# Altium integrated library TI Data Converters Digital to Analog Converter.IntLib: 1533 symbols (part 14 of 99)
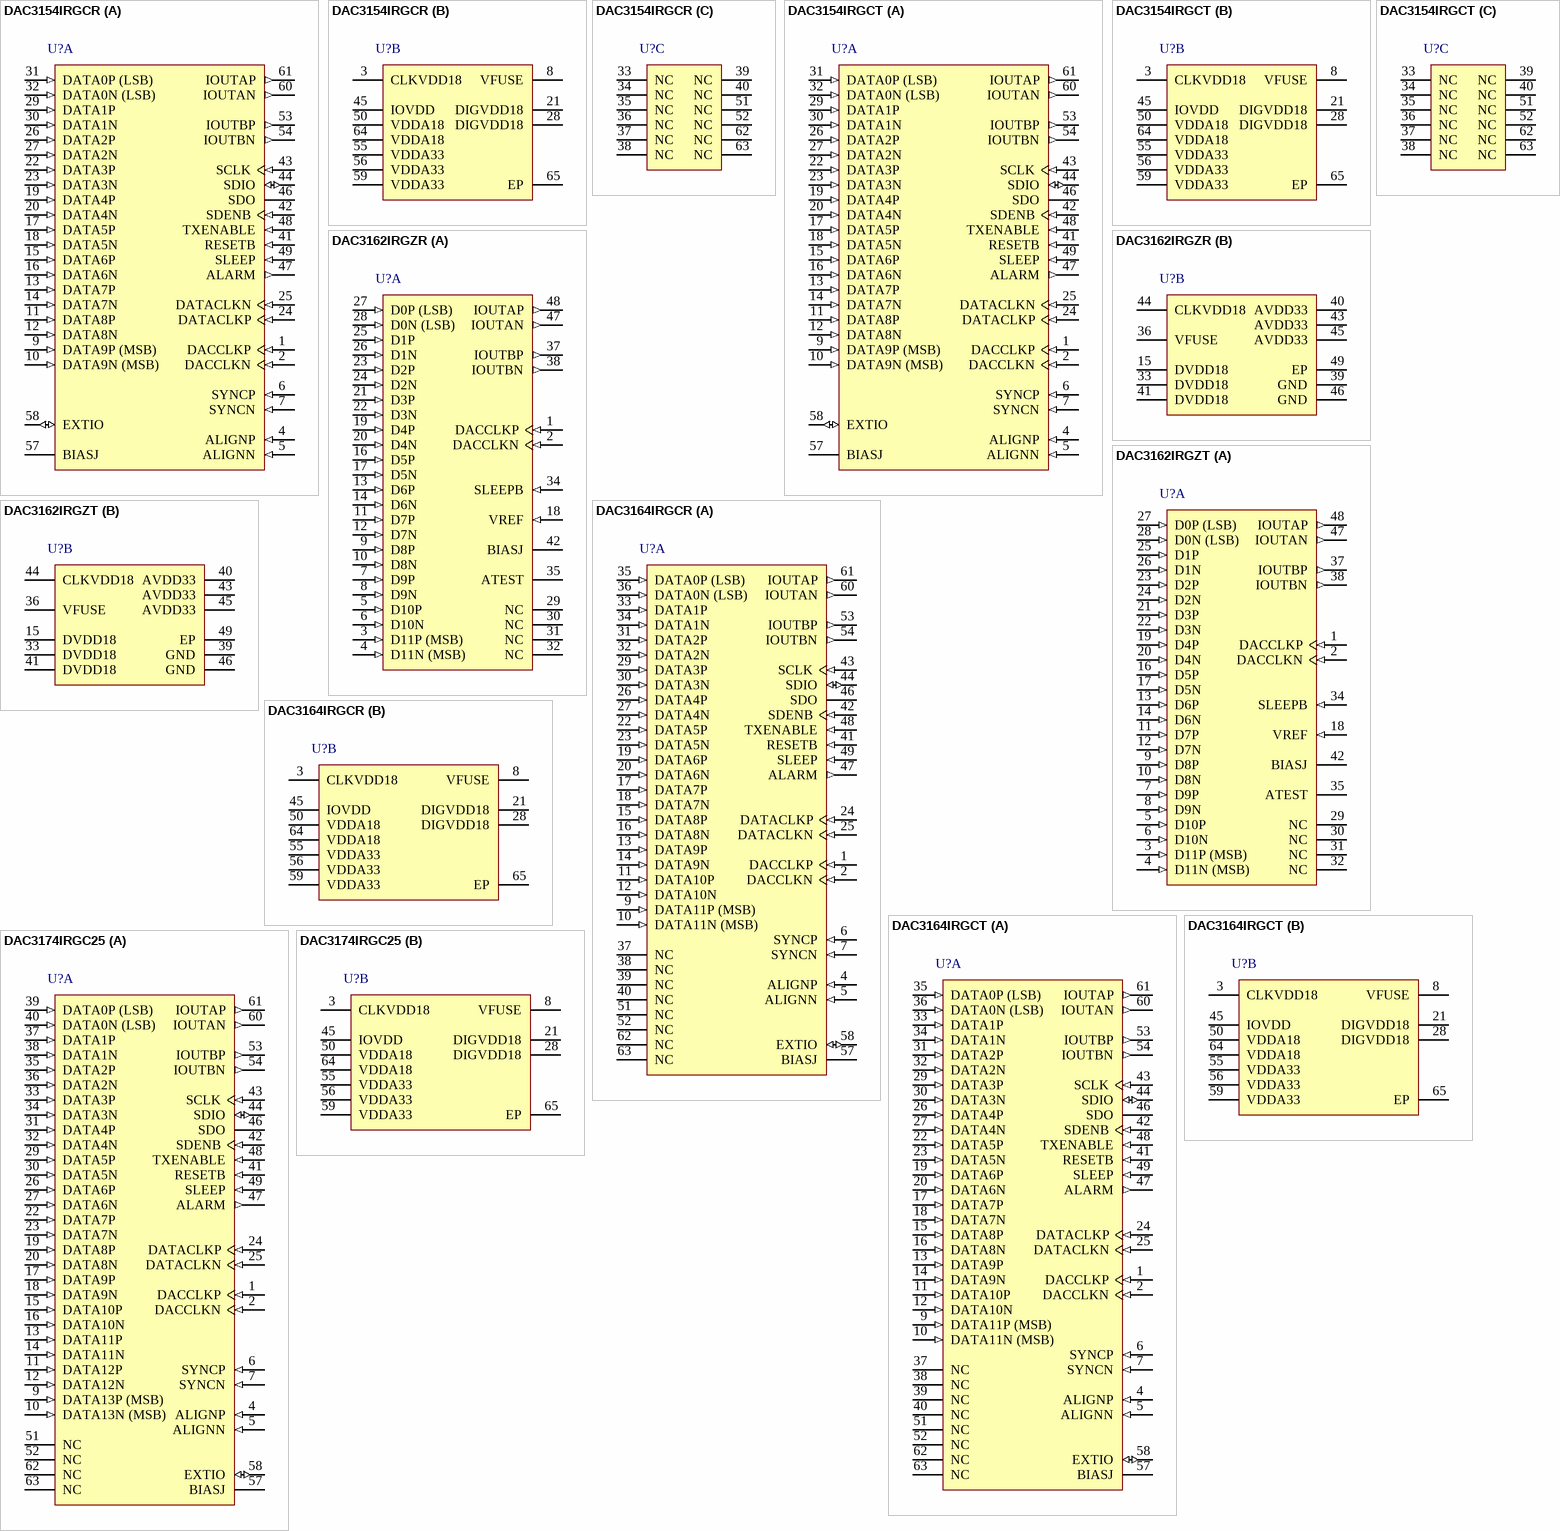
[diagram p86: symbols DAC3154IRGCR to DAC3174IRGC25]

## DAC3164IRGCR
designator U?
Dual 12-Bit 500 MSPS Digital to Analog Converter, -40 to 85 degC, 64-pin QFN (RGC64), Green (RoHS & no Sb/Br); Manufacturer: Texas Instruments; PartNumber: DAC3164IRGCR; DAC Channels: 2; Power Consumption(Typ)(mW): 464; Resolution(Bits): 12; Settling Time(us): 0.011; SFDR(dB): 82; SubFamily: High Speed DAC (>10MSPS); DatasheetVersion: SLAS960; PackageVersion: 4204106/F, 11/2011; PackageReference: RGC64-7400X7400TP; PackageDescription: 64-Pin Plastic Quad Flatpack No-Lead, Body 9 x 9 mm, Pitch 0.5 mm; Eco-Plan: Green (RoHS & no Sb/Br); Mounting Technology: Surface Mount; ComponentLink1Description: Manufacturer URL; ComponentLink1URL: http://www.ti.com/; ComponentLink2Description: Datasheet; ComponentLink2URL: http://www.ti.com/lit/ds/symlink/dac3164.pdf; ComponentLink3Description: Package Specification; ComponentLink3URL: http://www.ti.com/litv/pdf/mpqf125e
footprint TI-RGC64-7400X7400TP_V (QFN, 64-Leads, Body 9x9mm, Pitch 0.5mm, Thermal Pad 7.4x7.4mm, TI Recommended)
part A pins: 1 DACCLKP (in) "LVPECL clock input for DAC core with a self-bias of approximately CLKVDD18/2.", 2 DACCLKN (in) "LVPECL clock input for DAC core with a self-bias of approximately CLKVDD18/2.", 4 ALIGNP (in) "LVPECL FIFO output syncrhonization. This positive/negative pair is captured with the rising edge of DACCLKP/N. It is used to reset the clock dividers and for multiple DAC synchronization. If unused it can be left unconnected.", 5 ALIGNN (in) "LVPECL FIFO output syncrhonization. This positive/negative pair is captured with the rising edge of DACCLKP/N. It is used to reset the clock dividers and for multiple DAC synchronization. If unused it can be left unconnected.", 6 SYNCP (in) "Reset the FIFO or to be used as a syncing source. These two functions are captured with the rising edge of DATACLKP/N. The signal captured by the falling edge of DATACLKP/N.", 7 SYNCN (in) "Reset the FIFO or to be used as a syncing source. These two functions are captured with the rising edge of DATACLKP/N. The signal captured by the falling edge of DATACLKP/N.", 9 DATA11P (MSB) (in) "LVDS input data bits for both channels. Each positive/negative LVDS pair has an internal 100 Ohm termination resistor. Data format relative to DATACLKP/N clock is Double Data Rate (DDR) with two data transfers per DATACKP/N (See Datasheet)", 10 DATA11N (MSB) (in) "LVDS input data bits for both channels. Each positive/negative LVDS pair has an internal 100 Ohm termination resistor. Data format relative to DATACLKP/N clock is Double Data Rate (DDR) with two data transfers per DATACKP/N (See Datasheet)", 11 DATA10P (in) "LVDS input data bits for both channels. Each positive/negative LVDS pair has an internal 100 Ohm termination resistor. Data format relative to DATACLKP/N clock is Double Data Rate (DDR) with two data transfers per DATACKP/N (See Datasheet)", 12 DATA10N (in) "LVDS input data bits for both channels. Each positive/negative LVDS pair has an internal 100 Ohm termination resistor. Data format relative to DATACLKP/N clock is Double Data Rate (DDR) with two data transfers per DATACKP/N (See Datasheet)", 13 DATA9P (in) "LVDS input data bits for both channels. Each positive/negative LVDS pair has an internal 100 Ohm termination resistor. Data format relative to DATACLKP/N clock is Double Data Rate (DDR) with two data transfers per DATACKP/N (See Datasheet)", 14 DATA9N (in) "LVDS input data bits for both channels. Each positive/negative LVDS pair has an internal 100 Ohm termination resistor. Data format relative to DATACLKP/N clock is Double Data Rate (DDR) with two data transfers per DATACKP/N (See Datasheet)", 15 DATA8P (in) "LVDS input data bits for both channels. Each positive/negative LVDS pair has an internal 100 Ohm termination resistor. Data format relative to DATACLKP/N clock is Double Data Rate (DDR) with two data transfers per DATACKP/N (See Datasheet)", 16 DATA8N (in) "LVDS input data bits for both channels. Each positive/negative LVDS pair has an internal 100 Ohm termination resistor. Data format relative to DATACLKP/N clock is Double Data Rate (DDR) with two data transfers per DATACKP/N (See Datasheet)", 17 DATA7P (in) "LVDS input data bits for both channels. Each positive/negative LVDS pair has an internal 100 Ohm termination resistor. Data format relative to DATACLKP/N clock is Double Data Rate (DDR) with two data transfers per DATACKP/N (See Datasheet)", 18 DATA7N (in) "LVDS input data bits for both channels. Each positive/negative LVDS pair has an internal 100 Ohm termination resistor. Data format relative to DATACLKP/N clock is Double Data Rate (DDR) with two data transfers per DATACKP/N (See Datasheet)", 19 DATA6P (in) "LVDS input data bits for both channels. Each positive/negative LVDS pair has an internal 100 Ohm termination resistor. Data format relative to DATACLKP/N clock is Double Data Rate (DDR) with two data transfers per DATACKP/N (See Datasheet)", 20 DATA6N (in) "LVDS input data bits for both channels. Each positive/negative LVDS pair has an internal 100 Ohm termination resistor. Data format relative to DATACLKP/N clock is Double Data Rate (DDR) with two data transfers per DATACKP/N (See Datasheet)", 22 DATA5P (in) "LVDS input data bits for both channels. Each positive/negative LVDS pair has an internal 100 Ohm termination resistor. Data format relative to DATACLKP/N clock is Double Data Rate (DDR) with two data transfers per DATACKP/N (See Datasheet)", 23 DATA5N (in) "LVDS input data bits for both channels. Each positive/negative LVDS pair has an internal 100 Ohm termination resistor. Data format relative to DATACLKP/N clock is Double Data Rate (DDR) with two data transfers per DATACKP/N (See Datasheet)", 24 DATACLKP (in) "DDR differential input data clock. Edge to center nominal timing. Ch A rising edge, Ch B falling edge in multiplexed output mode.", 25 DATACLKN (in) "DDR differential input data clock. Edge to center nominal timing. Ch A rising edge, Ch B falling edge in multiplexed output mode.", 26 DATA4P (in) "LVDS input data bits for both channels. Each positive/negative LVDS pair has an internal 100 Ohm termination resistor. Data format relative to DATACLKP/N clock is Double Data Rate (DDR) with two data transfers per DATACKP/N (See Datasheet)", 27 DATA4N (in) "LVDS input data bits for both channels. Each positive/negative LVDS pair has an internal 100 Ohm termination resistor. Data format relative to DATACLKP/N clock is Double Data Rate (DDR) with two data transfers per DATACKP/N (See Datasheet)", 29 DATA3P (in) "LVDS input data bits for both channels. Each positive/negative LVDS pair has an internal 100 Ohm termination resistor. Data format relative to DATACLKP/N clock is Double Data Rate (DDR) with two data transfers per DATACKP/N (See Datasheet)", 30 DATA3N (in) "LVDS input data bits for both channels. Each positive/negative LVDS pair has an internal 100 Ohm termination resistor. Data format relative to DATACLKP/N clock is Double Data Rate (DDR) with two data transfers per DATACKP/N (See Datasheet)", 31 DATA2P (in) "LVDS input data bits for both channels. Each positive/negative LVDS pair has an internal 100 Ohm termination resistor. Data format relative to DATACLKP/N clock is Double Data Rate (DDR) with two data transfers per DATACKP/N (See Datasheet)", 32 DATA2N (in) "LVDS input data bits for both channels. Each positive/negative LVDS pair has an internal 100 Ohm termination resistor. Data format relative to DATACLKP/N clock is Double Data Rate (DDR) with two data transfers per DATACKP/N (See Datasheet)", 33 DATA1P (in) "LVDS input data bits for both channels. Each positive/negative LVDS pair has an internal 100 Ohm termination resistor. Data format relative to DATACLKP/N clock is Double Data Rate (DDR) with two data transfers per DATACKP/N (See Datasheet)", 34 DATA1N (in) "LVDS input data bits for both channels. Each positive/negative LVDS pair has an internal 100 Ohm termination resistor. Data format relative to DATACLKP/N clock is Double Data Rate (DDR) with two data transfers per DATACKP/N (See Datasheet)", 35 DATA0P (LSB) (in) "LVDS input data bits for both channels. Each positive/negative LVDS pair has an internal 100 Ohm termination resistor. Data format relative to DATACLKP/N clock is Double Data Rate (DDR) with two data transfers per DATACKP/N (See Datasheet)", 36 DATA0N (LSB) (in) "LVDS input data bits for both channels. Each positive/negative LVDS pair has an internal 100 Ohm termination resistor. Data format relative to DATACLKP/N clock is Double Data Rate (DDR) with two data transfers per DATACKP/N (See Datasheet)", 37 NC "Not used. These pins can be left open or tied to GROUND in actual application use.", 38 NC "Not used. These pins can be left open or tied to GROUND in actual application use.", 39 NC "Not used. These pins can be left open or tied to GROUND in actual application use.", 40 NC "Not used. These pins can be left open or tied to GROUND in actual application use.", 41 RESETB (in) "Serial interface reset input. Active low. Initialized internal registers during high to low transition. Assynchronous. Internal pull-up.", 42 SDENB (in) "Serial interface clock. Internal pull-up.", 43 SCLK (in) "Serial interface clock. Internal pull-down.", 44 SDIO (io) "Bi-directional serial data in 3 pin mode (default). In 4-pin interface mode (register XYZ), the SDIO pin in an input only. Internal Pull-down.", 46 SDO (hiz) "Uni-directional serial interface data in 4 pin mode (register XYZ). The SDO pin is tri-stated in 3-pin interface mode (default). Internal Pulldown.", 47 ALARM (out) "CMOS output for ALARM condition.", 48 TXENABLE (in) "Transmit enable active high input. TXENABLE must be high for the DATA to the DAC to be enabled. When TXENABLE is low, the digital logic section is forced to all 0, and any input data is ignored. Internal pull-down.", 49 SLEEP (in) "Puts device in sleep, active high. Internal pull-down.", 51 NC "Not used. These pins can be left open or tied to GROUND in actual application use.", 52 NC "Not used. These pins can be left open or tied to GROUND in actual application use.", 53 IOUTBP (out) "B-Channel DAC current output. An offset binary data pattern of 0x0000 at the DAC input results in a full scale current source and the most positive voltage on the IOUTB1 pin. Similarly, a 0xFFFF data input results in a 0 mA (See Datasheet)", 54 IOUTBN (out) "B-Channel DAC current output. An offset binary data pattern of 0x0000 at the DAC input results in a full scale current source and the most positive voltage on the IOUTB1 pin. Similarly, a 0xFFFF data input results in a 0 mA (See Datasheet)", 57 BIASJ "Full-scale output current bias. For 20 mA full-scale output current, connect a 960 Ohm resistor to GND.", 58 EXTIO (io) "Used as external reference input when internal reference is disabled. Requires a 0.1 uF decoupling capacitor to GND when used as reference output.", 60 IOUTAN (out) "A-Channel DAC current output. An offset binary data pattern of 0x0000 at the DAC input results in a full scale current source and the most positive voltage on the IOUTA1 pin. Similarly, a 0xFFFF data input results in a 0 mA (See Datasheet)", 61 IOUTAP (out) "A-Channel DAC current output. An offset binary data pattern of 0x0000 at the DAC input results in a full scale current source and the most positive voltage on the IOUTA1 pin. Similarly, a 0xFFFF data input results in a 0 mA (See Datasheet)", 62 NC "Not used. These pins can be left open or tied to GROUND in actual application use.", 63 NC "Not used. These pins can be left open or tied to GROUND in actual application use."
part B pins: 3 CLKVDD18 (power) "1.8V clock supply", 8 VFUSE (power) "Digital supply voltage. (1.8V) This supply pin is also used for factory fuse programming. Connect to DVDD pins for normal operation.", 21 DIGVDD18 (power) "1.8V digital supply. Also supplies LVDS receivers.", 28 DIGVDD18 (power) "1.8V digital supply. Also supplies LVDS receivers.", 45 IOVDD (power) "Supply voltage for CMOS IO’s. 1.8V - 3.3V.", 50 VDDA18 (power) "Analog 1.8V supply", 55 VDDA33 (power) "Analog 3.3V supply", 56 VDDA33 (power) "Analog 3.3V supply", 59 VDDA33 (power) "Analog 3.3V supply", 64 VDDA18 (power) "Analog 1.8V supply", 65 EP (power)

## DAC3164IRGCT
designator U?
Dual 12-Bit 500 MSPS Digital to Analog Converter, -40 to 85 degC, 64-pin QFN (RGC64), Green (RoHS & no Sb/Br); Manufacturer: Texas Instruments; PartNumber: DAC3164IRGCT; DAC Channels: 2; Power Consumption(Typ)(mW): 464; Resolution(Bits): 12; Settling Time(us): 0.011; SFDR(dB): 82; SubFamily: High Speed DAC (>10MSPS); DatasheetVersion: SLAS960; PackageVersion: 4204106/F, 11/2011; PackageReference: RGC64-7400X7400TP; PackageDescription: 64-Pin Plastic Quad Flatpack No-Lead, Body 9 x 9 mm, Pitch 0.5 mm; Supplier 1: Digi-Key; Supplier Part Number 1: DAC3164IRGCT-ND; Eco-Plan: Green (RoHS & no Sb/Br); Mounting Technology: Surface Mount; ComponentLink1Description: Manufacturer URL; ComponentLink1URL: http://www.ti.com/; ComponentLink2Description: Datasheet; ComponentLink2URL: http://www.ti.com/lit/ds/symlink/dac3164.pdf; ComponentLink3Description: Package Specification; ComponentLink3URL: http://www.ti.com/litv/pdf/mpqf125e
footprint TI-RGC64-7400X7400TP_V (QFN, 64-Leads, Body 9x9mm, Pitch 0.5mm, Thermal Pad 7.4x7.4mm, TI Recommended)
part A pins: 1 DACCLKP (in) "LVPECL clock input for DAC core with a self-bias of approximately CLKVDD18/2.", 2 DACCLKN (in) "LVPECL clock input for DAC core with a self-bias of approximately CLKVDD18/2.", 4 ALIGNP (in) "LVPECL FIFO output syncrhonization. This positive/negative pair is captured with the rising edge of DACCLKP/N. It is used to reset the clock dividers and for multiple DAC synchronization. If unused it can be left unconnected.", 5 ALIGNN (in) "LVPECL FIFO output syncrhonization. This positive/negative pair is captured with the rising edge of DACCLKP/N. It is used to reset the clock dividers and for multiple DAC synchronization. If unused it can be left unconnected.", 6 SYNCP (in) "Reset the FIFO or to be used as a syncing source. These two functions are captured with the rising edge of DATACLKP/N. The signal captured by the falling edge of DATACLKP/N.", 7 SYNCN (in) "Reset the FIFO or to be used as a syncing source. These two functions are captured with the rising edge of DATACLKP/N. The signal captured by the falling edge of DATACLKP/N.", 9 DATA11P (MSB) (in) "LVDS input data bits for both channels. Each positive/negative LVDS pair has an internal 100 Ohm termination resistor. Data format relative to DATACLKP/N clock is Double Data Rate (DDR) with two data transfers per DATACKP/N (See Datasheet)", 10 DATA11N (MSB) (in) "LVDS input data bits for both channels. Each positive/negative LVDS pair has an internal 100 Ohm termination resistor. Data format relative to DATACLKP/N clock is Double Data Rate (DDR) with two data transfers per DATACKP/N (See Datasheet)", 11 DATA10P (in) "LVDS input data bits for both channels. Each positive/negative LVDS pair has an internal 100 Ohm termination resistor. Data format relative to DATACLKP/N clock is Double Data Rate (DDR) with two data transfers per DATACKP/N (See Datasheet)", 12 DATA10N (in) "LVDS input data bits for both channels. Each positive/negative LVDS pair has an internal 100 Ohm termination resistor. Data format relative to DATACLKP/N clock is Double Data Rate (DDR) with two data transfers per DATACKP/N (See Datasheet)", 13 DATA9P (in) "LVDS input data bits for both channels. Each positive/negative LVDS pair has an internal 100 Ohm termination resistor. Data format relative to DATACLKP/N clock is Double Data Rate (DDR) with two data transfers per DATACKP/N (See Datasheet)", 14 DATA9N (in) "LVDS input data bits for both channels. Each positive/negative LVDS pair has an internal 100 Ohm termination resistor. Data format relative to DATACLKP/N clock is Double Data Rate (DDR) with two data transfers per DATACKP/N (See Datasheet)", 15 DATA8P (in) "LVDS input data bits for both channels. Each positive/negative LVDS pair has an internal 100 Ohm termination resistor. Data format relative to DATACLKP/N clock is Double Data Rate (DDR) with two data transfers per DATACKP/N (See Datasheet)", 16 DATA8N (in) "LVDS input data bits for both channels. Each positive/negative LVDS pair has an internal 100 Ohm termination resistor. Data format relative to DATACLKP/N clock is Double Data Rate (DDR) with two data transfers per DATACKP/N (See Datasheet)", 17 DATA7P (in) "LVDS input data bits for both channels. Each positive/negative LVDS pair has an internal 100 Ohm termination resistor. Data format relative to DATACLKP/N clock is Double Data Rate (DDR) with two data transfers per DATACKP/N (See Datasheet)", 18 DATA7N (in) "LVDS input data bits for both channels. Each positive/negative LVDS pair has an internal 100 Ohm termination resistor. Data format relative to DATACLKP/N clock is Double Data Rate (DDR) with two data transfers per DATACKP/N (See Datasheet)", 19 DATA6P (in) "LVDS input data bits for both channels. Each positive/negative LVDS pair has an internal 100 Ohm termination resistor. Data format relative to DATACLKP/N clock is Double Data Rate (DDR) with two data transfers per DATACKP/N (See Datasheet)", 20 DATA6N (in) "LVDS input data bits for both channels. Each positive/negative LVDS pair has an internal 100 Ohm termination resistor. Data format relative to DATACLKP/N clock is Double Data Rate (DDR) with two data transfers per DATACKP/N (See Datasheet)", 22 DATA5P (in) "LVDS input data bits for both channels. Each positive/negative LVDS pair has an internal 100 Ohm termination resistor. Data format relative to DATACLKP/N clock is Double Data Rate (DDR) with two data transfers per DATACKP/N (See Datasheet)", 23 DATA5N (in) "LVDS input data bits for both channels. Each positive/negative LVDS pair has an internal 100 Ohm termination resistor. Data format relative to DATACLKP/N clock is Double Data Rate (DDR) with two data transfers per DATACKP/N (See Datasheet)", 24 DATACLKP (in) "DDR differential input data clock. Edge to center nominal timing. Ch A rising edge, Ch B falling edge in multiplexed output mode.", 25 DATACLKN (in) "DDR differential input data clock. Edge to center nominal timing. Ch A rising edge, Ch B falling edge in multiplexed output mode.", 26 DATA4P (in) "LVDS input data bits for both channels. Each positive/negative LVDS pair has an internal 100 Ohm termination resistor. Data format relative to DATACLKP/N clock is Double Data Rate (DDR) with two data transfers per DATACKP/N (See Datasheet)", 27 DATA4N (in) "LVDS input data bits for both channels. Each positive/negative LVDS pair has an internal 100 Ohm termination resistor. Data format relative to DATACLKP/N clock is Double Data Rate (DDR) with two data transfers per DATACKP/N (See Datasheet)", 29 DATA3P (in) "LVDS input data bits for both channels. Each positive/negative LVDS pair has an internal 100 Ohm termination resistor. Data format relative to DATACLKP/N clock is Double Data Rate (DDR) with two data transfers per DATACKP/N (See Datasheet)", 30 DATA3N (in) "LVDS input data bits for both channels. Each positive/negative LVDS pair has an internal 100 Ohm termination resistor. Data format relative to DATACLKP/N clock is Double Data Rate (DDR) with two data transfers per DATACKP/N (See Datasheet)", 31 DATA2P (in) "LVDS input data bits for both channels. Each positive/negative LVDS pair has an internal 100 Ohm termination resistor. Data format relative to DATACLKP/N clock is Double Data Rate (DDR) with two data transfers per DATACKP/N (See Datasheet)", 32 DATA2N (in) "LVDS input data bits for both channels. Each positive/negative LVDS pair has an internal 100 Ohm termination resistor. Data format relative to DATACLKP/N clock is Double Data Rate (DDR) with two data transfers per DATACKP/N (See Datasheet)", 33 DATA1P (in) "LVDS input data bits for both channels. Each positive/negative LVDS pair has an internal 100 Ohm termination resistor. Data format relative to DATACLKP/N clock is Double Data Rate (DDR) with two data transfers per DATACKP/N (See Datasheet)", 34 DATA1N (in) "LVDS input data bits for both channels. Each positive/negative LVDS pair has an internal 100 Ohm termination resistor. Data format relative to DATACLKP/N clock is Double Data Rate (DDR) with two data transfers per DATACKP/N (See Datasheet)", 35 DATA0P (LSB) (in) "LVDS input data bits for both channels. Each positive/negative LVDS pair has an internal 100 Ohm termination resistor. Data format relative to DATACLKP/N clock is Double Data Rate (DDR) with two data transfers per DATACKP/N (See Datasheet)", 36 DATA0N (LSB) (in) "LVDS input data bits for both channels. Each positive/negative LVDS pair has an internal 100 Ohm termination resistor. Data format relative to DATACLKP/N clock is Double Data Rate (DDR) with two data transfers per DATACKP/N (See Datasheet)", 37 NC "Not used. These pins can be left open or tied to GROUND in actual application use.", 38 NC "Not used. These pins can be left open or tied to GROUND in actual application use.", 39 NC "Not used. These pins can be left open or tied to GROUND in actual application use.", 40 NC "Not used. These pins can be left open or tied to GROUND in actual application use.", 41 RESETB (in) "Serial interface reset input. Active low. Initialized internal registers during high to low transition. Assynchronous. Internal pull-up.", 42 SDENB (in) "Serial interface clock. Internal pull-up.", 43 SCLK (in) "Serial interface clock. Internal pull-down.", 44 SDIO (io) "Bi-directional serial data in 3 pin mode (default). In 4-pin interface mode (register XYZ), the SDIO pin in an input only. Internal Pull-down.", 46 SDO (hiz) "Uni-directional serial interface data in 4 pin mode (register XYZ). The SDO pin is tri-stated in 3-pin interface mode (default). Internal Pulldown.", 47 ALARM (out) "CMOS output for ALARM condition.", 48 TXENABLE (in) "Transmit enable active high input. TXENABLE must be high for the DATA to the DAC to be enabled. When TXENABLE is low, the digital logic section is forced to all 0, and any input data is ignored. Internal pull-down.", 49 SLEEP (in) "Puts device in sleep, active high. Internal pull-down.", 51 NC "Not used. These pins can be left open or tied to GROUND in actual application use.", 52 NC "Not used. These pins can be left open or tied to GROUND in actual application use.", 53 IOUTBP (out) "B-Channel DAC current output. An offset binary data pattern of 0x0000 at the DAC input results in a full scale current source and the most positive voltage on the IOUTB1 pin. Similarly, a 0xFFFF data input results in a 0 mA (See Datasheet)", 54 IOUTBN (out) "B-Channel DAC current output. An offset binary data pattern of 0x0000 at the DAC input results in a full scale current source and the most positive voltage on the IOUTB1 pin. Similarly, a 0xFFFF data input results in a 0 mA (See Datasheet)", 57 BIASJ "Full-scale output current bias. For 20 mA full-scale output current, connect a 960 Ohm resistor to GND.", 58 EXTIO (io) "Used as external reference input when internal reference is disabled. Requires a 0.1 uF decoupling capacitor to GND when used as reference output.", 60 IOUTAN (out) "A-Channel DAC current output. An offset binary data pattern of 0x0000 at the DAC input results in a full scale current source and the most positive voltage on the IOUTA1 pin. Similarly, a 0xFFFF data input results in a 0 mA (See Datasheet)", 61 IOUTAP (out) "A-Channel DAC current output. An offset binary data pattern of 0x0000 at the DAC input results in a full scale current source and the most positive voltage on the IOUTA1 pin. Similarly, a 0xFFFF data input results in a 0 mA (See Datasheet)", 62 NC "Not used. These pins can be left open or tied to GROUND in actual application use.", 63 NC "Not used. These pins can be left open or tied to GROUND in actual application use."
part B pins: 3 CLKVDD18 (power) "1.8V clock supply", 8 VFUSE (power) "Digital supply voltage. (1.8V) This supply pin is also used for factory fuse programming. Connect to DVDD pins for normal operation.", 21 DIGVDD18 (power) "1.8V digital supply. Also supplies LVDS receivers.", 28 DIGVDD18 (power) "1.8V digital supply. Also supplies LVDS receivers.", 45 IOVDD (power) "Supply voltage for CMOS IO’s. 1.8V - 3.3V.", 50 VDDA18 (power) "Analog 1.8V supply", 55 VDDA33 (power) "Analog 3.3V supply", 56 VDDA33 (power) "Analog 3.3V supply", 59 VDDA33 (power) "Analog 3.3V supply", 64 VDDA18 (power) "Analog 1.8V supply", 65 EP (power)

## DAC3174IRGC25
designator U?
Dual 14-Bit 500 MSPS Digital to Analog Converter, -40 to 85 degC, 64-pin QFN (RGC64), Green (RoHS & no Sb/Br); Manufacturer: Texas Instruments; PartNumber: DAC3174IRGC25; DAC Channels: 2; Power Consumption(Typ)(mW): 464; Resolution(Bits): 14; Settling Time(us): 0.011; SFDR(dB): 82; SubFamily: High Speed DAC (>10MSPS); DatasheetVersion: SLAS837A; PackageVersion: 4204106/F, 11/2011; PackageReference: RGC64-7400X7400TP; PackageDescription: 64-Pin Plastic Quad Flatpack No-Lead, Body 9 x 9 mm, Pitch 0.5 mm; Eco-Plan: Green (RoHS & no Sb/Br); Mounting Technology: Surface Mount; ComponentLink1Description: Manufacturer URL; ComponentLink1URL: http://www.ti.com/; ComponentLink2Description: Datasheet; ComponentLink2URL: http://www.ti.com/lit/ds/symlink/dac3174.pdf; ComponentLink3Description: Package Specification; ComponentLink3URL: http://www.ti.com/litv/pdf/mpqf125e
footprint TI-RGC64-7400X7400TP_V (QFN, 64-Leads, Body 9x9mm, Pitch 0.5mm, Thermal Pad 7.4x7.4mm, TI Recommended)
part A pins: 1 DACCLKP (in) "LVPECL clock input for DAC core with a self-bias of approximately CLKVDD18/2.", 2 DACCLKN (in) "LVPECL clock input for DAC core with a self-bias of approximately CLKVDD18/2.", 4 ALIGNP (in) "LVPECL FIFO output syncrhonization. This positive/negative pair is captured with the rising edge of DACCLKP/N. It is used to reset the clock dividers and for multiple DAC synchronization. If unused it can be left unconnected.", 5 ALIGNN (in) "LVPECL FIFO output syncrhonization. This positive/negative pair is captured with the rising edge of DACCLKP/N. It is used to reset the clock dividers and for multiple DAC synchronization. If unused it can be left unconnected.", 6 SYNCP (in) "Reset the FIFO or to be used as a syncing source. These two functions are captured with the rising edge of DATACLKP/N. The signal captured by the falling edge of DATACLKP/N.", 7 SYNCN (in) "Reset the FIFO or to be used as a syncing source. These two functions are captured with the rising edge of DATACLKP/N. The signal captured by the falling edge of DATACLKP/N.", 9 DATA13P (MSB) (in) "LVDS input data bits for both channels. Each positive/negative LVDS pair has an internal 100 Ohm termination resistor. Data format relative to DATACLKP/N clock is Double Data Rate (DDR) with two data transfers per DATACKP/N (See Datasheet)", 10 DATA13N (MSB) (in) "LVDS input data bits for both channels. Each positive/negative LVDS pair has an internal 100 Ohm termination resistor. Data format relative to DATACLKP/N clock is Double Data Rate (DDR) with two data transfers per DATACKP/N (See Datasheet)", 11 DATA12P (in) "LVDS input data bits for both channels. Each positive/negative LVDS pair has an internal 100 Ohm termination resistor. Data format relative to DATACLKP/N clock is Double Data Rate (DDR) with two data transfers per DATACKP/N (See Datasheet)", 12 DATA12N (in) "LVDS input data bits for both channels. Each positive/negative LVDS pair has an internal 100 Ohm termination resistor. Data format relative to DATACLKP/N clock is Double Data Rate (DDR) with two data transfers per DATACKP/N (See Datasheet)", 13 DATA11P (in) "LVDS input data bits for both channels. Each positive/negative LVDS pair has an internal 100 Ohm termination resistor. Data format relative to DATACLKP/N clock is Double Data Rate (DDR) with two data transfers per DATACKP/N (See Datasheet)", 14 DATA11N (in) "LVDS input data bits for both channels. Each positive/negative LVDS pair has an internal 100 Ohm termination resistor. Data format relative to DATACLKP/N clock is Double Data Rate (DDR) with two data transfers per DATACKP/N (See Datasheet)", 15 DATA10P (in) "LVDS input data bits for both channels. Each positive/negative LVDS pair has an internal 100 Ohm termination resistor. Data format relative to DATACLKP/N clock is Double Data Rate (DDR) with two data transfers per DATACKP/N (See Datasheet)", 16 DATA10N (in) "LVDS input data bits for both channels. Each positive/negative LVDS pair has an internal 100 Ohm termination resistor. Data format relative to DATACLKP/N clock is Double Data Rate (DDR) with two data transfers per DATACKP/N (See Datasheet)", 17 DATA9P (in) "LVDS input data bits for both channels. Each positive/negative LVDS pair has an internal 100 Ohm termination resistor. Data format relative to DATACLKP/N clock is Double Data Rate (DDR) with two data transfers per DATACKP/N (See Datasheet)", 18 DATA9N (in) "LVDS input data bits for both channels. Each positive/negative LVDS pair has an internal 100 Ohm termination resistor. Data format relative to DATACLKP/N clock is Double Data Rate (DDR) with two data transfers per DATACKP/N (See Datasheet)", 19 DATA8P (in) "LVDS input data bits for both channels. Each positive/negative LVDS pair has an internal 100 Ohm termination resistor. Data format relative to DATACLKP/N clock is Double Data Rate (DDR) with two data transfers per DATACKP/N (See Datasheet)", 20 DATA8N (in) "LVDS input data bits for both channels. Each positive/negative LVDS pair has an internal 100 Ohm termination resistor. Data format relative to DATACLKP/N clock is Double Data Rate (DDR) with two data transfers per DATACKP/N (See Datasheet)", 22 DATA7P (in) "LVDS input data bits for both channels. Each positive/negative LVDS pair has an internal 100 Ohm termination resistor. Data format relative to DATACLKP/N clock is Double Data Rate (DDR) with two data transfers per DATACKP/N (See Datasheet)", 23 DATA7N (in) "LVDS input data bits for both channels. Each positive/negative LVDS pair has an internal 100 Ohm termination resistor. Data format relative to DATACLKP/N clock is Double Data Rate (DDR) with two data transfers per DATACKP/N (See Datasheet)", 24 DATACLKP (in) "DDR differential input data clock. Edge to center nominal timing. Ch A rising edge, Ch B falling edge in multiplexed output mode.", 25 DATACLKN (in) "DDR differential input data clock. Edge to center nominal timing. Ch A rising edge, Ch B falling edge in multiplexed output mode.", 26 DATA6P (in) "LVDS input data bits for both channels. Each positive/negative LVDS pair has an internal 100 Ohm termination resistor. Data format relative to DATACLKP/N clock is Double Data Rate (DDR) with two data transfers per DATACKP/N (See Datasheet)", 27 DATA6N (in) "LVDS input data bits for both channels. Each positive/negative LVDS pair has an internal 100 Ohm termination resistor. Data format relative to DATACLKP/N clock is Double Data Rate (DDR) with two data transfers per DATACKP/N (See Datasheet)", 29 DATA5P (in) "LVDS input data bits for both channels. Each positive/negative LVDS pair has an internal 100 Ohm termination resistor. Data format relative to DATACLKP/N clock is Double Data Rate (DDR) with two data transfers per DATACKP/N (See Datasheet)", 30 DATA5N (in) "LVDS input data bits for both channels. Each positive/negative LVDS pair has an internal 100 Ohm termination resistor. Data format relative to DATACLKP/N clock is Double Data Rate (DDR) with two data transfers per DATACKP/N (See Datasheet)", 31 DATA4P (in) "LVDS input data bits for both channels. Each positive/negative LVDS pair has an internal 100 Ohm termination resistor. Data format relative to DATACLKP/N clock is Double Data Rate (DDR) with two data transfers per DATACKP/N (See Datasheet)", 32 DATA4N (in) "LVDS input data bits for both channels. Each positive/negative LVDS pair has an internal 100 Ohm termination resistor. Data format relative to DATACLKP/N clock is Double Data Rate (DDR) with two data transfers per DATACKP/N (See Datasheet)", 33 DATA3P (in) "LVDS input data bits for both channels. Each positive/negative LVDS pair has an internal 100 Ohm termination resistor. Data format relative to DATACLKP/N clock is Double Data Rate (DDR) with two data transfers per DATACKP/N (See Datasheet)", 34 DATA3N (in) "LVDS input data bits for both channels. Each positive/negative LVDS pair has an internal 100 Ohm termination resistor. Data format relative to DATACLKP/N clock is Double Data Rate (DDR) with two data transfers per DATACKP/N (See Datasheet)", 35 DATA2P (in) "LVDS input data bits for both channels. Each positive/negative LVDS pair has an internal 100 Ohm termination resistor. Data format relative to DATACLKP/N clock is Double Data Rate (DDR) with two data transfers per DATACKP/N (See Datasheet)", 36 DATA2N (in) "LVDS input data bits for both channels. Each positive/negative LVDS pair has an internal 100 Ohm termination resistor. Data format relative to DATACLKP/N clock is Double Data Rate (DDR) with two data transfers per DATACKP/N (See Datasheet)", 37 DATA1P (in) "LVDS input data bits for both channels. Each positive/negative LVDS pair has an internal 100 Ohm termination resistor. Data format relative to DATACLKP/N clock is Double Data Rate (DDR) with two data transfers per DATACKP/N (See Datasheet)", 38 DATA1N (in) "LVDS input data bits for both channels. Each positive/negative LVDS pair has an internal 100 Ohm termination resistor. Data format relative to DATACLKP/N clock is Double Data Rate (DDR) with two data transfers per DATACKP/N (See Datasheet)", 39 DATA0P (LSB) (in) "LVDS input data bits for both channels. Each positive/negative LVDS pair has an internal 100 Ohm termination resistor. Data format relative to DATACLKP/N clock is Double Data Rate (DDR) with two data transfers per DATACKP/N (See Datasheet)", 40 DATA0N (LSB) (in) "LVDS input data bits for both channels. Each positive/negative LVDS pair has an internal 100 Ohm termination resistor. Data format relative to DATACLKP/N clock is Double Data Rate (DDR) with two data transfers per DATACKP/N (See Datasheet)", 41 RESETB (in) "Serial interface reset input. Active low. Initialized internal registers during high to low transition. Assynchronous. Internal pull-up.", 42 SDENB (in) "Serial interface clock. Internal pull-up.", 43 SCLK (in) "Serial interface clock. Internal pull-down.", 44 SDIO (io) "Bi-directional serial data in 3 pin mode (default). In 4-pin interface mode (register XYZ), the SDIO pin in an input only. Internal Pull-down.", 46 SDO (hiz) "Uni-directional serial interface data in 4 pin mode (register XYZ). The SDO pin is tri-stated in 3-pin interface mode (default). Internal Pulldown.", 47 ALARM (out) "CMOS output for ALARM condition.", 48 TXENABLE (in) "Transmit enable active high input. TXENABLE must be high for the DATA to the DAC to be enabled. When TXENABLE is low, the digital logic section is forced to all 0, and any input data is ignored. Internal pull-down.", 49 SLEEP (in) "Puts device in sleep, active high. Internal pull-down.", 51 NC "Not used. These pins can be left open or tied to GROUND in actual application use.", 52 NC "Not used. These pins can be left open or tied to GROUND in actual application use.", 53 IOUTBP (out) "B-Channel DAC current output. An offset binary data pattern of 0x0000 at the DAC input results in a full scale current source and the most positive voltage on the IOUTBP pin. Similarly, a 0xFFFF data input results in a 0 mA (See Datasheet)", 54 IOUTBN (out) "B-Channel DAC current output. An offset binary data pattern of 0x0000 at the DAC input results in a full scale current source and the most positive voltage on the IOUTBP pin. Similarly, a 0xFFFF data input results in a 0 mA (See Datasheet)", 57 BIASJ "Full-scale output current bias. For 20 mA full-scale output current, connect a 960 Ohm resistor to GND.", 58 EXTIO (io) "Used as external reference input when internal reference is disabled. Requires a 0.1 uF decoupling capacitor to GND when used as reference output.", 60 IOUTAN (out) "A-Channel DAC current output. An offset binary data pattern of 0x0000 at the DAC input results in a full scale current source and the most positive voltage on the IOUTAP pin. Similarly, a 0xFFFF data input results in a 0 mA (See Datasheet)", 61 IOUTAP (out) "A-Channel DAC current output. An offset binary data pattern of 0x0000 at the DAC input results in a full scale current source and the most positive voltage on the IOUTAP pin. Similarly, a 0xFFFF data input results in a 0 mA (See Datasheet)", 62 NC "Not used. These pins can be left open or tied to GROUND in actual application use.", 63 NC "Not used. These pins can be left open or tied to GROUND in actual application use."
part B pins: 3 CLKVDD18 (power) "1.8V clock supply", 8 VFUSE (power) "Digital supply voltage. (1.8V) This supply pin is also used for factory fuse programming. Connect to DVDD pins for normal operation.", 21 DIGVDD18 (power) "1.8V digital supply. Also supplies LVDS receivers.", 28 DIGVDD18 (power) "1.8V digital supply. Also supplies LVDS receivers.", 45 IOVDD (power) "Supply voltage for CMOS IO’s. 1.8V - 3.3V.", 50 VDDA18 (power) "Analog 1.8V supply", 55 VDDA33 (power) "Analog 3.3V supply", 56 VDDA33 (power) "Analog 3.3V supply", 59 VDDA33 (power) "Analog 3.3V supply", 64 VDDA18 (power) "Analog 1.8V supply", 65 EP (power)

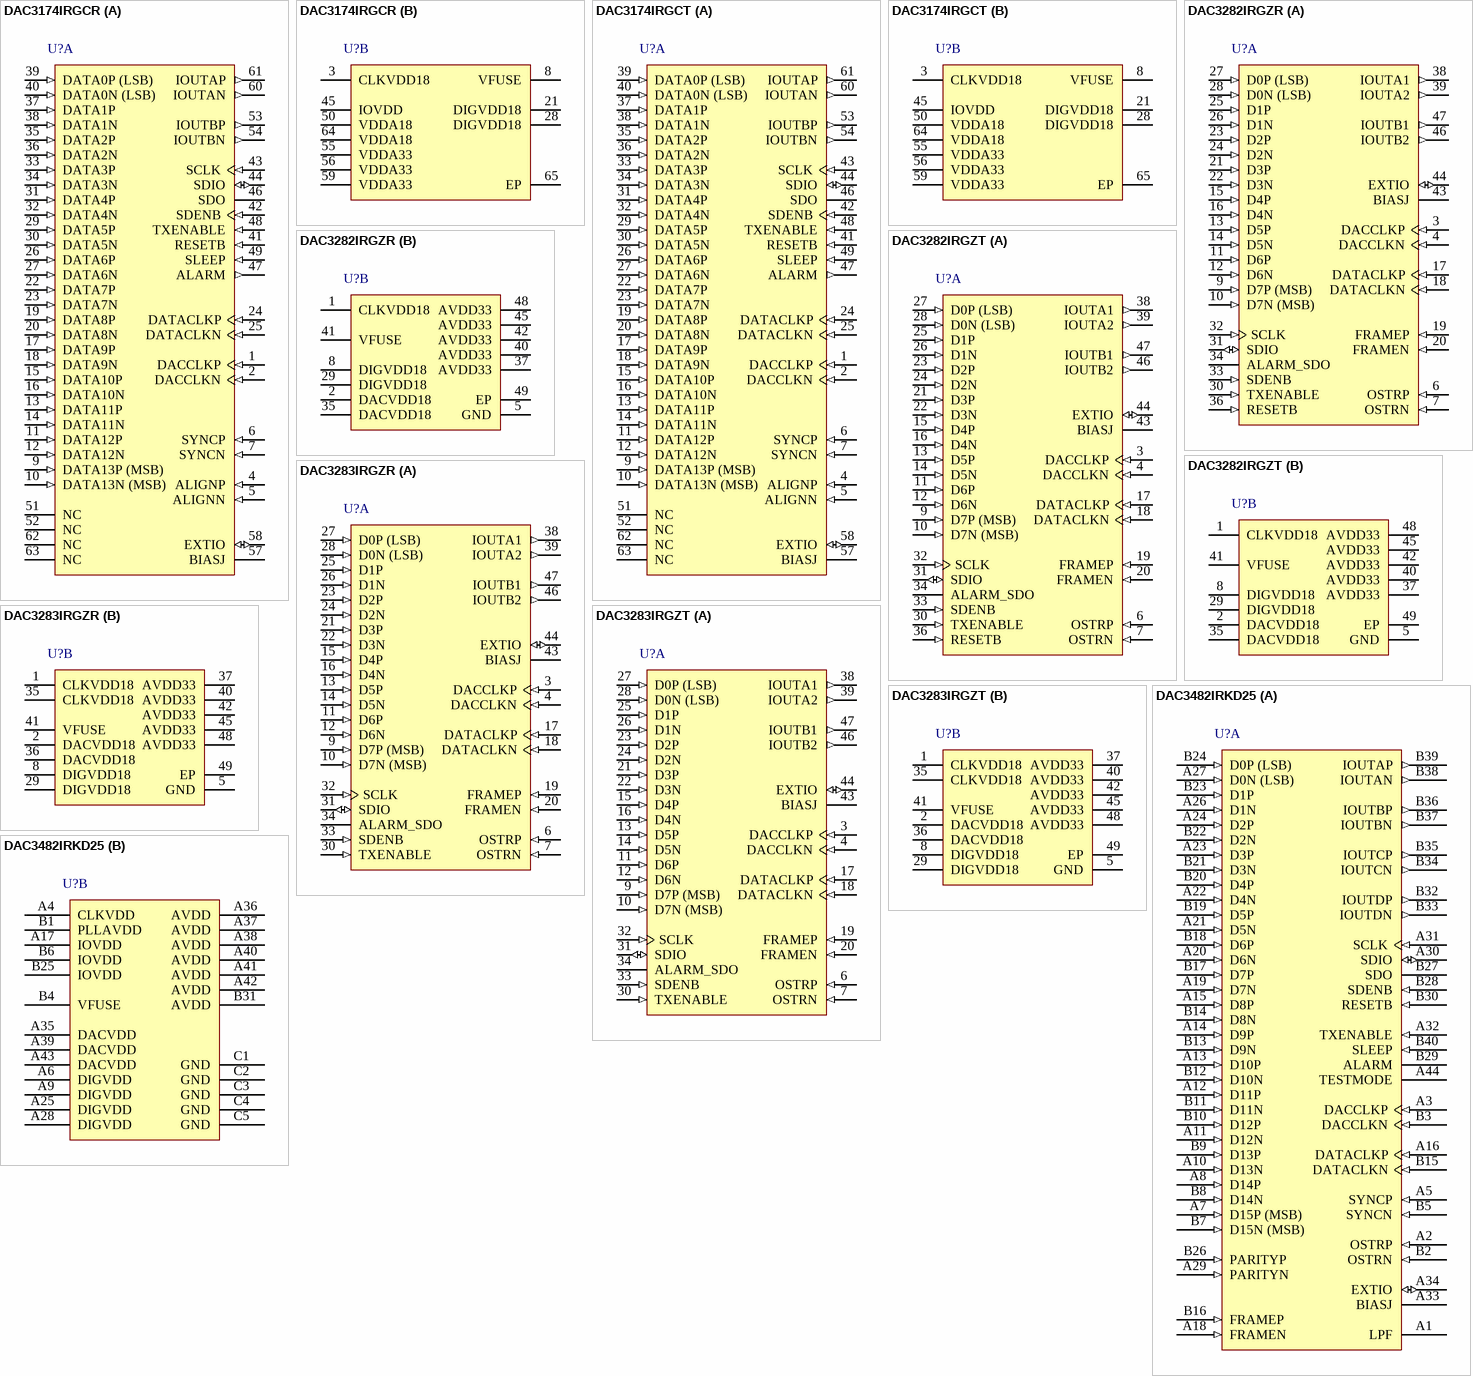
[diagram p12: symbols DAC3174IRGCR to DAC3482IRKD25]